# EAGLE library part CP2102N (library vibhud)
Silabs CP2102N USB to UART Bridge (5V tolerant inputs) CP2102N-QFN24 is pin-compatible with CP2104.
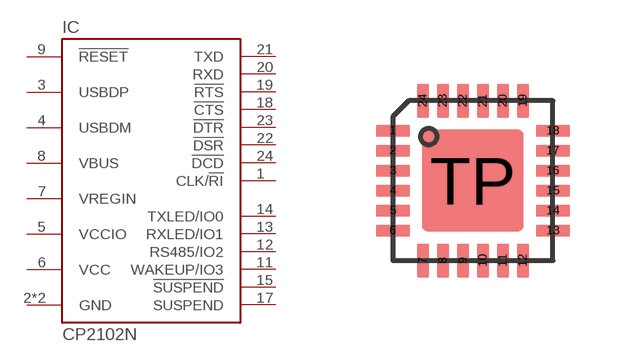
[diagram p11: symbol with the pads of QFN24-PAD; footprint QFN24-PAD]

Designator prefix IC

## CP2102N-QFN24  [QFN24-PAD]
1  CLK/!RI
2  GND  pwr
3  USBDP
4  USBDM
5  VCCIO  pwr
6  VCC  pwr
7  VREGIN  pwr
8  VBUS  pwr
9  !RESET
11  WAKEUP/IO3
12  RS485/IO2
13  RXLED/IO1
14  TXLED/IO0
15  !SUSPEND
17  SUSPEND
18  !CTS
19  !RTS
20  RXD
21  TXD
22  !DSR
23  !DTR
24  !DCD
TP  GND  pwr

## Footprint QFN24-PAD (pad centres in mm)
smd 0.85 x 0.3: 1 -2,1.25; 2 -2,0.75; 3 -2,0.25; 4 -2,-0.25; 5 -2,-0.75; 6 -2,-1.25; 13 2,-1.25; 14 2,-0.75; 15 2,-0.25; 16 2,0.25; 17 2,0.75; 18 2,1.25
smd 0.3 x 0.85: 7 -1.25,-2; 8 -0.75,-2; 9 -0.25,-2; 10 0.25,-2; 11 0.75,-2; 12 1.25,-2; 19 1.25,2; 20 0.75,2; 21 0.25,2; 22 -0.25,2; 23 -0.75,2; 24 -1.25,2
smd 2.55 x 2.55: TP 0,0